# Altium schematic symbol library BUCK_MODULE.SchLib: 1 symbol
Pins are listed as number, name and electrical type; pins without a type are passive.

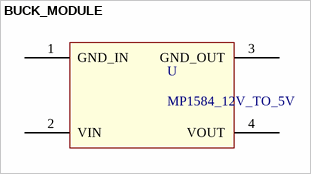
[diagram p0: symbol BUCK_MODULE]

## BUCK_MODULE
designator U, comment MP1584_12V_TO_5V
footprint BUCK_MODULE
footprint BUCK_MODULE
pins: 1 GND_IN, 2 VIN, 3 GND_OUT, 4 VOUT